# EAGLE library part ATTINY2/4/84A (library pcb-card)
ATtiny24A/44A/84A
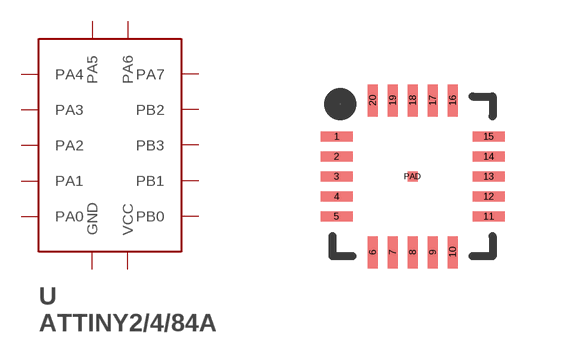
[diagram p0: symbol with the pads of 20-WFQFN; footprint 20-WFQFN]

Designator prefix -

## ATTINY2/4/84AMU (DIGIKEY_PART_#: ATTINY24A-MU-ND; EURO: 12.11/10; MANUFACTURER: Atmel; MFG_PART_#: ATTINY24A-MU)  [20-WFQFN]
1  PA4  pas
2  PA3  pas
3  PA2  pas
4  PA1  pas
5  PA0  pas
8  GND  pas
9  VCC  pas
11  PB0  pas
12  PB1  pas
13  PB3  pas
14  PB2  pas
15  PA7  pas
16  PA6  pas
20  PA5  pas
PAD  GND  pas

## Footprint 20-WFQFN (pad centres in mm)
smd 0.8 x 0.25: 1 -1.9,1; 2 -1.9,0.5; 3 -1.9,0; 4 -1.9,-0.5; 5 -1.9,-1; 11 1.9,-1; 12 1.9,-0.5; 13 1.9,0; 14 1.9,0.5; 15 1.9,1
smd 0.25 x 0.8: 6 -1,-1.9; 7 -0.5,-1.9; 8 0,-1.9; 9 0.5,-1.9; 10 1,-1.9; 16 1,1.9; 17 0.5,1.9; 18 0,1.9; 19 -0.5,1.9; 20 -1,1.9
smd 0.25 x 0.25: PAD 0,0